# Altium footprint library TPS51200-Q1.PcbLib: 1 footprints
Each footprint in its own frame and in the unit in brackets; x right, y up, seen from the top. Pads: shape width x height; smd on the part's side, far side on the other; paste and mask are expansions set on the pad; w line width, h text height; cw(c..) or ccw(c..) is an arc to the next point about the centre after c.
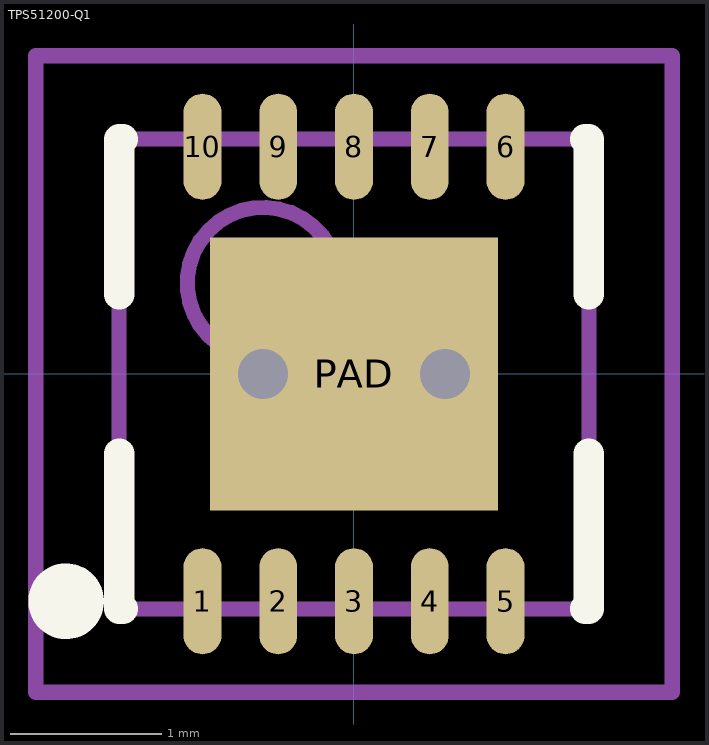
[diagram p0: the footprint, top view; thin cyan lines are the x and y axes]

## TPS51200-Q1 [mm] "QFN, 10-Leads, Body 3,1x3,1mm (max), Pitch 0,50mm, Pitch1 0,00mm, IPC Medium Density"
height 1
pads (11):
  oval 0.25x0.7 smd: 1(-1,-1.5) 2(-0.5,-1.5) 3(0,-1.5) 4(0.5,-1.5) 5(1,-1.5) 6(1,1.5) 7(0.5,1.5) 8(0,1.5) 9(-0.5,1.5) 10(-1,1.5)
  rect 1.9x1.8 smd: PAD(0,0)
via -0.6,0 diameter 0.66 hole 0.33
via 0.6,0 diameter 0.66 hole 0.33
Top Overlay:
  circle w0.25: c-1.9,-1.5 r0.125
  lines w0.2: -1.55,-0.525 -1.55,-1.55 -1.525,-1.55 ; -1.55,0.525 -1.55,1.55 -1.525,1.55 ; 1.525,-1.55 1.55,-1.55 1.55,-0.525 ; 1.525,1.55 1.55,1.55 1.55,0.525
Mechanical 13:
  circle w0.1: c-0.6,0.6 r0.5
  lines w0.1: -1.55,-1.55 -1.55,1.55 1.55,1.55 1.55,-1.55 -1.55,-1.55
Mechanical 15:
  lines w0.1: -0.5,0 0.5,0 ; 0,-0.5 0,0.5 ; -2.1,-2.1 -2.1,2.1 2.1,2.1 2.1,-2.1 -2.1,-2.1
3D body: height 1, standoff 0, extent -1.55,-1.55 1.55,1.55